# EAGLE library part LTC3873 (library PowerProducts)
No RSENSE Constant Frequency Current Mode Boost/Flyback/SEPIC DC/DC Controller
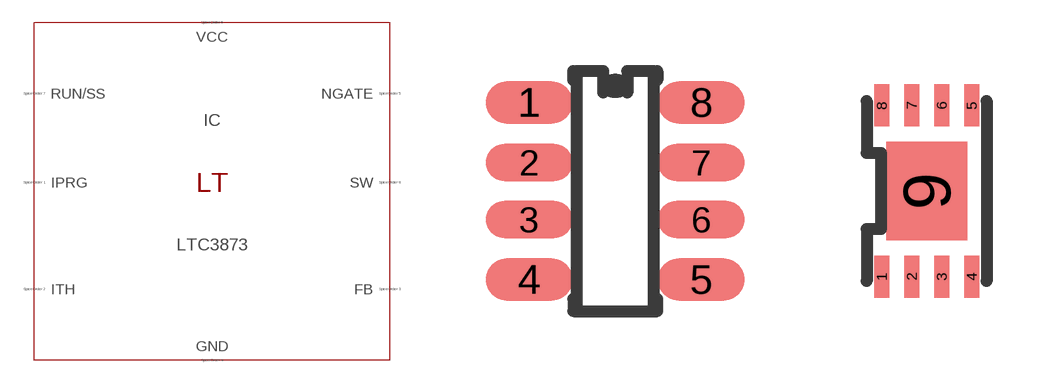
[diagram p390: symbol with the pads of SOT8(TS8); footprints SOT8(TS8), DFN8(DDB)]

Designator prefix IC

## LTC3873TS8 (SPICEMODEL: LTC3873.sub; SPICEPREFIX: X; VALUE2: LTC3873)  [SOT8(TS8)]
1  IPRG  pas
2  ITH  pas
3  FB  pas
4  GND  pas
5  NGATE  pas
6  VCC  pas
7  RUN/SS  pas
8  SW  pas

## LTC3873 (SPICEMODEL: LTC3873.sub; SPICEPREFIX: X; VALUE2: LTC3873)  [DFN8(DDB)]
1  GND  pas
2  FB  pas
3  ITH  pas
4  IPRG  pas
5  SW  pas
6  RUN/SS  pas
7  VCC  pas
8  NGATE  pas
9  GND  pas

## Footprint SOT8(TS8) (pad centres in mm)
Package generated from: SOT8(TS8).asc (!PADS-POWERPCB-V5.0-BASIC! DESIGN DATABASE ASCII FILE 1.0) with :import-pads-powerpcb-v5.ulp Version 1.0.1 at 04.10.2012 14:11:36
smd 2.175 x 1.05: 1 -2.152,2.212; 4 -2.152,-2.212; 5 2.152,-2.212; 8 2.152,2.212
smd 2.175 x 0.93: 2 -2.152,0.713; 3 -2.152,-0.713; 6 2.152,-0.713; 7 2.152,0.713

## Footprint DFN8(DDB) (pad centres in mm)
Package generated from: DFN8(DDB).asc (!PADS-POWERPCB-V5.0-BASIC! DESIGN DATABASE ASCII FILE 1.0) with :import-pads-powerpcb-v5.ulp Version 1.0.1 at 04.10.2012 14:11:17
smd 0.375 x 1.05: 1 -1.125,-2.138; 2 -0.375,-2.138; 3 0.375,-2.138; 4 1.125,-2.138; 5 1.125,2.138; 6 0.375,2.138; 7 -0.375,2.138; 8 -1.125,2.138
smd 2.025 x 2.475: 9 0,0